# Altium footprint library BC56.PcbLib: 1 footprints
Each footprint in its own frame and in the unit in brackets; x right, y up, seen from the top. Pads: shape width x height; smd on the part's side, far side on the other; paste and mask are expansions set on the pad; w line width, h text height; cw(c..) or ccw(c..) is an arc to the next point about the centre after c.
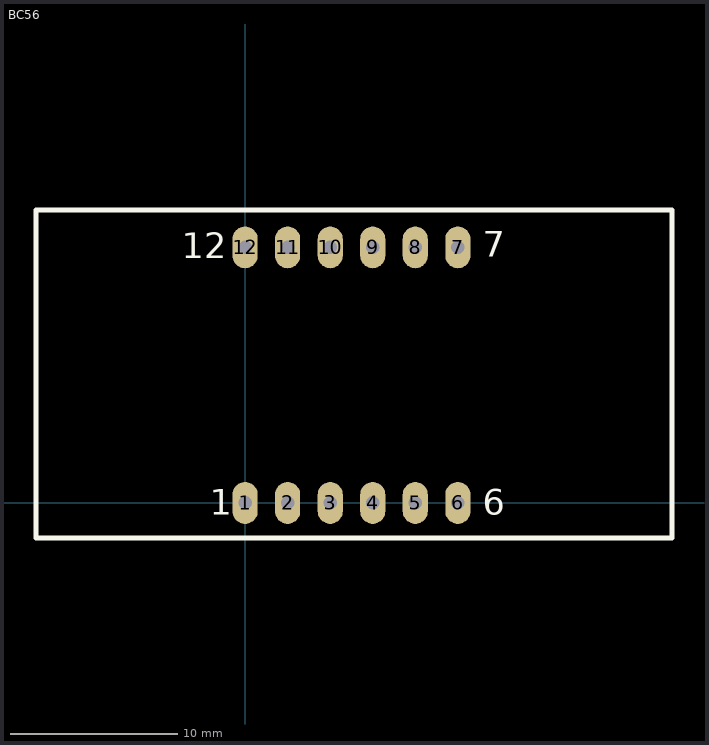
[diagram p0: the footprint, top view; thin cyan lines are the x and y axes]

## BC56 [mm]
pads (12):
  oval 1.5x2.5 hole 0.8: 1(0,0) 2(2.54,0) 3(5.08,0) 4(7.62,0) 5(10.16,0) 6(12.7,0) 7(12.7,15.26) 8(10.16,15.26) 9(7.62,15.26) 10(5.08,15.26) 11(2.54,15.26) 12(0,15.26)
Top Overlay:
  lines w0.3: -12.5,-2.1 -12.5,17.5 25.5,17.5 25.5,-2.1 -12.5,-2.1
  text "12" at -3.8,14.6 h1.52
  text "7" at 14.2,14.7 h1.52
  text "6" at 14.2,-0.7 h1.52
  text "1" at -2.1,-0.7 h1.52
3D body "BX56-12A.STEP": height 8.1, standoff -4, extent -12.4,-1.8 25.2,17.2